# EAGLE library part SILICONLABS-CP2104 (library FlashPCB_ICs)
Silicon Labs CP2104 - USB Bridge, USB to UART USB 2.0 UART Interface Technical Specifications: Standards: USB 2.0 Component Search: [DATA SHEET NAME] <[FLASHPCB URL]> Datasheet: CP2104 <https://www.silabs.com/documents/public/data-sheets/cp2104.pdf>
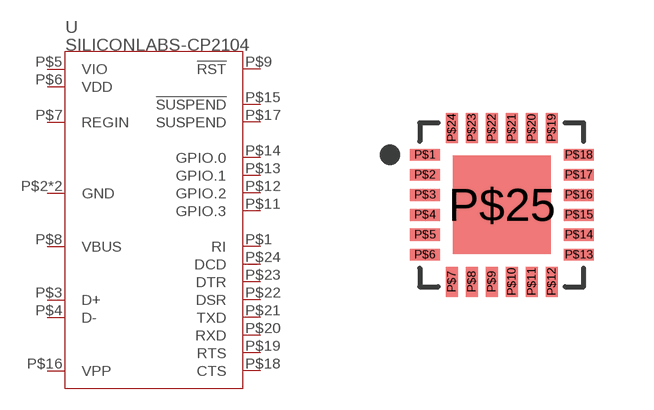
[diagram p80: symbol with the pads of 24-QFN(4X4); footprint 24-QFN(4X4)]

Designator prefix U

## SILICONLABS-CP2104  [24-QFN(4X4)]
P$1  RI
P$2  GND
P$3  D+
P$4  D-
P$5  VIO
P$6  VDD
P$7  REGIN
P$8  VBUS
P$9  !RST!
P$11  GPIO.3
P$12  GPIO.2
P$13  GPIO.1
P$14  GPIO.0
P$15  !SUSPEND!
P$16  VPP
P$17  SUSPEND
P$18  CTS
P$19  RTS
P$20  RXD
P$21  TXD
P$22  DSR
P$23  DTR
P$24  DCD
P$25  GND

## Footprint 24-QFN(4X4) (pad centres in mm)
smd 0.75 x 0.3: P$1 -1.925,1.25; P$2 -1.925,0.75; P$3 -1.925,0.25; P$4 -1.925,-0.25; P$5 -1.925,-0.75; P$6 -1.925,-1.25; P$13 1.925,-1.25; P$14 1.925,-0.75; P$15 1.925,-0.25; P$16 1.925,0.25; P$17 1.925,0.75; P$18 1.925,1.25
smd 0.3 x 0.75: P$7 -1.25,-1.925; P$8 -0.75,-1.925; P$9 -0.25,-1.925; P$10 0.25,-1.925; P$11 0.75,-1.925; P$12 1.25,-1.925; P$19 1.25,1.925; P$20 0.75,1.925; P$21 0.25,1.925; P$22 -0.25,1.925; P$23 -0.75,1.925; P$24 -1.25,1.925
smd 2.45 x 2.45: P$25 0,0